# Altium footprint library SBComponentsFootprints.PcbLib: 38 footprints (part 3 of 3)
Each footprint in its own frame and in the unit in brackets; x right, y up, seen from the top. Pads: shape width x height; smd on the part's side, far side on the other; paste and mask are expansions set on the pad; w line width, h text height; cw(c..) or ccw(c..) is an arc to the next point about the centre after c.
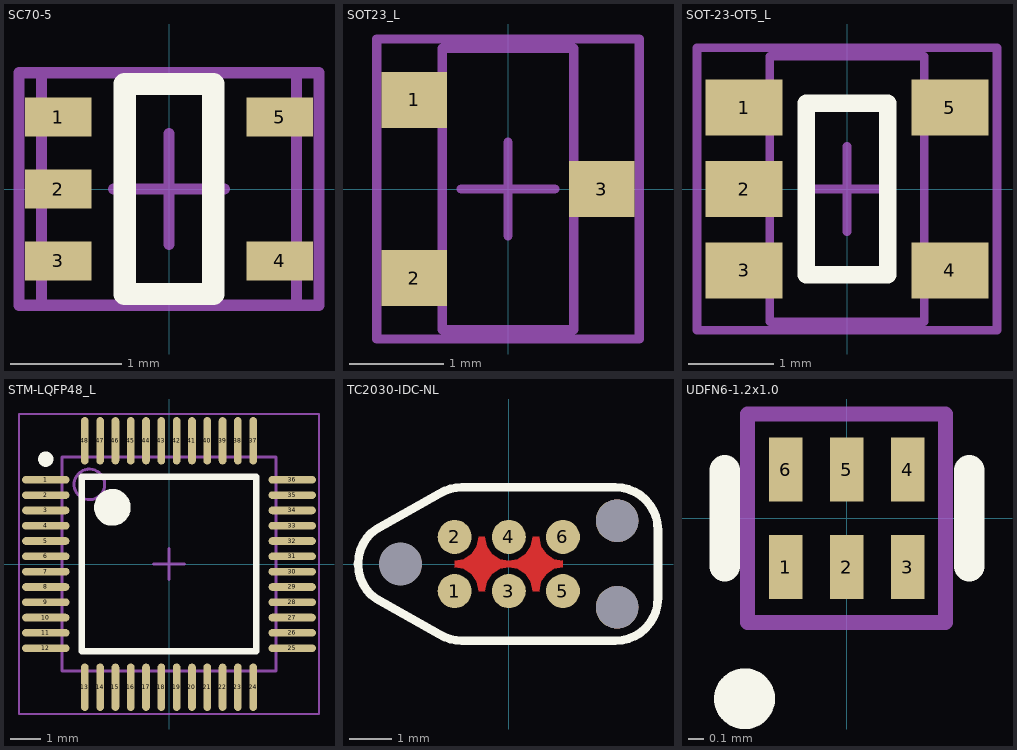
[diagram p2: the footprints below, top view; thin cyan lines are the x and y axes]

## SC70-5 [mm]
height 1.1
pads (5):
  rect 0.6x0.35 smd: 1(-1,0.65) 2(-1,0) 3(-1,-0.65) 4(1,-0.65) 5(1,0.65)
Top Overlay:
  lines w0.2: -0.4,-0.95 0.4,-0.95 0.4,0.95 -0.4,0.95 -0.4,-0.95
Mechanical 13:
  lines w0.1: -1.15,-1.05 -1.15,1.05 1.15,1.05 1.15,-1.05 -1.15,-1.05
Mechanical 15:
  lines w0.1: -0.5,0 0.5,0 ; 0,-0.5 0,0.5 ; -1.355,-1.05 -1.355,1.05 1.355,1.05 1.355,-1.05 -1.355,-1.05
3D body: height 1, standoff 0, extent -1.15,-1.05 1.15,1.05

## SOT23_L [mm] "SOT23, 3-Leads, Body 2.9x1.3mm, Pitch 0.95mm, Lead Span 2.3mm - Reverse Pinning, IPC High Density"
height 1.1
pads (3):
  rect 0.7x0.6 smd: 1(-1,0.95) 2(-1,-0.95) 3(1,0)
Mechanical 13:
  lines w0.1: -0.7,-1.5 -0.7,1.5 0.7,1.5 0.7,-1.5 -0.7,-1.5
Mechanical 15:
  lines w0.1: -0.5,0 0.5,0 ; 0,-0.5 0,0.5 ; -1.4,-1.6 -1.4,1.6 1.4,1.6 1.4,-1.6 -1.4,-1.6
3D body: height 1.21, standoff -0.01, extent -1.125,-1.5 1.126,1.5

## SOT-23-OT5_L [mm] "SOT23, 5-Leads, Body 2.9x1.6mm, Pitch 0.95mm, Lead Span 2.7mm, IPC High Density"
height 1.45
pads (5):
  rect 0.9x0.65 smd: 1(-1.2,0.95) 2(-1.2,0) 3(-1.2,-0.95) 4(1.2,-0.95) 5(1.2,0.95)
Top Overlay:
  lines w0.2: -0.475,-1 0.475,-1 0.475,1 -0.475,1 -0.475,-1
Mechanical 13:
  lines w0.1: -0.9,-1.55 -0.9,1.55 0.9,1.55 0.9,-1.55 -0.9,-1.55
Mechanical 15:
  lines w0.1: -0.5,0 0.5,0 ; 0,-0.5 0,0.5 ; -1.75,-1.65 -1.75,1.65 1.75,1.65 1.75,-1.65 -1.75,-1.65
3D body: height 1.45, standoff 0, extent -0.9,-1.55 0.9,1.55

## STM-LQFP48_L [mm] "QFP, 48-Leads, Body 7x7mm, Pitch 0.5mm, IPC High Density"
height 1.6
pads (48):
  oval 1.55x0.25 smd: 1(-4.025,2.75) 2(-4.025,2.25) 3(-4.025,1.75) 4(-4.025,1.25) 5(-4.025,0.75) 6(-4.025,0.25) 7(-4.025,-0.25) 8(-4.025,-0.75) 9(-4.025,-1.25) 10(-4.025,-1.75) 11(-4.025,-2.25) 12(-4.025,-2.75) 25(4.025,-2.75) 26(4.025,-2.25) 27(4.025,-1.75) 28(4.025,-1.25) 29(4.025,-0.75) 30(4.025,-0.25) 31(4.025,0.25) 32(4.025,0.75) 33(4.025,1.25) 34(4.025,1.75) 35(4.025,2.25) 36(4.025,2.75)
  oval 0.25x1.55 smd: 13(-2.75,-4.025) 14(-2.25,-4.025) 15(-1.75,-4.025) 16(-1.25,-4.025) 17(-0.75,-4.025) 18(-0.25,-4.025) 19(0.25,-4.025) 20(0.75,-4.025) 21(1.25,-4.025) 22(1.75,-4.025) 23(2.25,-4.025) 24(2.75,-4.025) 37(2.75,4.025) 38(2.25,4.025) 39(1.75,4.025) 40(1.25,4.025) 41(0.75,4.025) 42(0.25,4.025) 43(-0.25,4.025) 44(-0.75,4.025) 45(-1.25,4.025) 46(-1.75,4.025) 47(-2.25,4.025) 48(-2.75,4.025)
Top Overlay:
  circle w0.25: c-4.025,3.425 r0.125
  circle w0.6: c-1.85,1.85 r0.3
  lines w0.2: -2.85,-2.85 -2.85,2.85 2.85,2.85 2.85,-2.85 -2.85,-2.85
Mechanical 13:
  circle w0.1: c-2.6,2.6 r0.5
  lines w0.1: -3.5,-3.5 -3.5,3.5 3.5,3.5 3.5,-3.5 -3.5,-3.5
Mechanical 15:
  lines w0.05: -4.9,-4.9 -4.9,4.9 4.9,4.9 4.9,-4.9 -4.9,-4.9
  lines w0.1: -0.5,0 0.5,0 ; 0,-0.5 0,0.5
3D body: height 1.6, standoff 0.05, extent -3.5,-3.5 3.5,3.5

## TC2030-IDC-NL [mm] "TagConnector TC2030-IDC-NL"
pads (9):
  round 0.8 smd paste-1: 1(-1.27,-0.635) 2(-1.27,0.635) 3(0,-0.635) 4(0,0.635) 5(1.27,-0.635) 6(1.27,0.635)
  round 1 hole 1 unplated mask+0: ""(-2.54,0) ""(2.54,-1.016) ""(2.54,1.016)
Top Layer:
  pour cut-out: -1.27,-0.085 -1.27,0.074 -1.055,0.117 -0.873,0.238 -0.752,0.42 -0.709,0.635 -0.72,0.635 -0.561,0.635 -0.518,0.42 -0.397,0.238 -0.215,0.117 0,0.074 0.215,0.117 0.397,0.238 0.518,0.42 0.561,0.635 0.55,0.635 0.709,0.635 0.752,0.42 0.873,0.238 1.055,0.117 1.27,0.074 1.27,0.085 1.27,-0.074 1.055,-0.117 0.873,-0.238 0.752,-0.42 0.709,-0.635 0.72,-0.635 0.561,-0.635 0.518,-0.42 0.397,-0.238 0.215,-0.117 0,-0.074 -0.215,-0.117 -0.397,-0.238 -0.518,-0.42 -0.561,-0.635 -0.55,-0.635 -0.709,-0.635 -0.752,-0.42 -0.873,-0.238 -1.055,-0.117 -1.27,-0.074
Top Overlay:
  lines w0.2: -3.111,-0.816 cw(c-2.544,0) -3.111,0.816 -1.63,1.648 cw(c-1.1,0.8) -1.1,1.8 2.5,1.8 cw(c2.5,0.8) 3.5,0.8 3.5,-0.8 cw(c2.5,-0.8) 2.5,-1.8 -1.1,-1.8 cw(c-1.1,-0.8) -1.63,-1.648 -3.111,-0.816
Mechanical 15:
  lines w0.1: -3.111,-0.816 cw(c-2.544,0) -3.111,0.816 -1.63,1.648 cw(c-1.1,0.8) -1.1,1.8 2.5,1.8 cw(c2.5,0.8) 3.5,0.8 3.5,-0.8 cw(c2.5,-0.8) 2.5,-1.8 -1.1,-1.8 cw(c-1.1,-0.8) -1.63,-1.648 -3.111,-0.816
3D body: height 0, standoff 0, extent -1.667,0.236 -0.87,1.034
3D body: height 0, standoff 0, extent -0.397,0.236 0.4,1.034
3D body: height 0, standoff 0, extent -0.4,-1.034 0.397,-0.236
3D body: height 0, standoff 0, extent -1.67,-1.034 -0.873,-0.236
3D body: height 0, standoff 0, extent 0.87,-1.034 1.667,-0.236
3D body: height 0, standoff 0, extent 0.873,0.236 1.67,1.034

## UDFN6-1.2x1.0 [mm]
height 0.55
pads (6):
  rect 0.22x0.42 smd: 1(-0.4,-0.32) 2(0,-0.32) 3(0.4,-0.32) 4(0.4,0.32) 5(0,0.32) 6(-0.4,0.32)
Top Overlay:
  circle w0.2: c-0.67,-1.185 r0.1
  lines w0.2: -0.8,-0.315 -0.8,0.315 ; 0.805,-0.315 0.805,0.315
Mechanical 13:
  lines w0.1: -0.65,-0.685 -0.65,0.685 0.65,0.685 0.65,-0.685 -0.65,-0.685
3D body: height 0.55, standoff 0, extent -0.6,-0.5 0.6,0.5